# Altium footprint library B-NT_RLC.PcbLib: 48 footprints (part 2 of 3)
Each footprint in its own frame and in the unit in brackets; x right, y up, seen from the top. Pads: shape width x height; smd on the part's side, far side on the other; paste and mask are expansions set on the pad; w line width, h text height; cw(c..) or ccw(c..) is an arc to the next point about the centre after c.
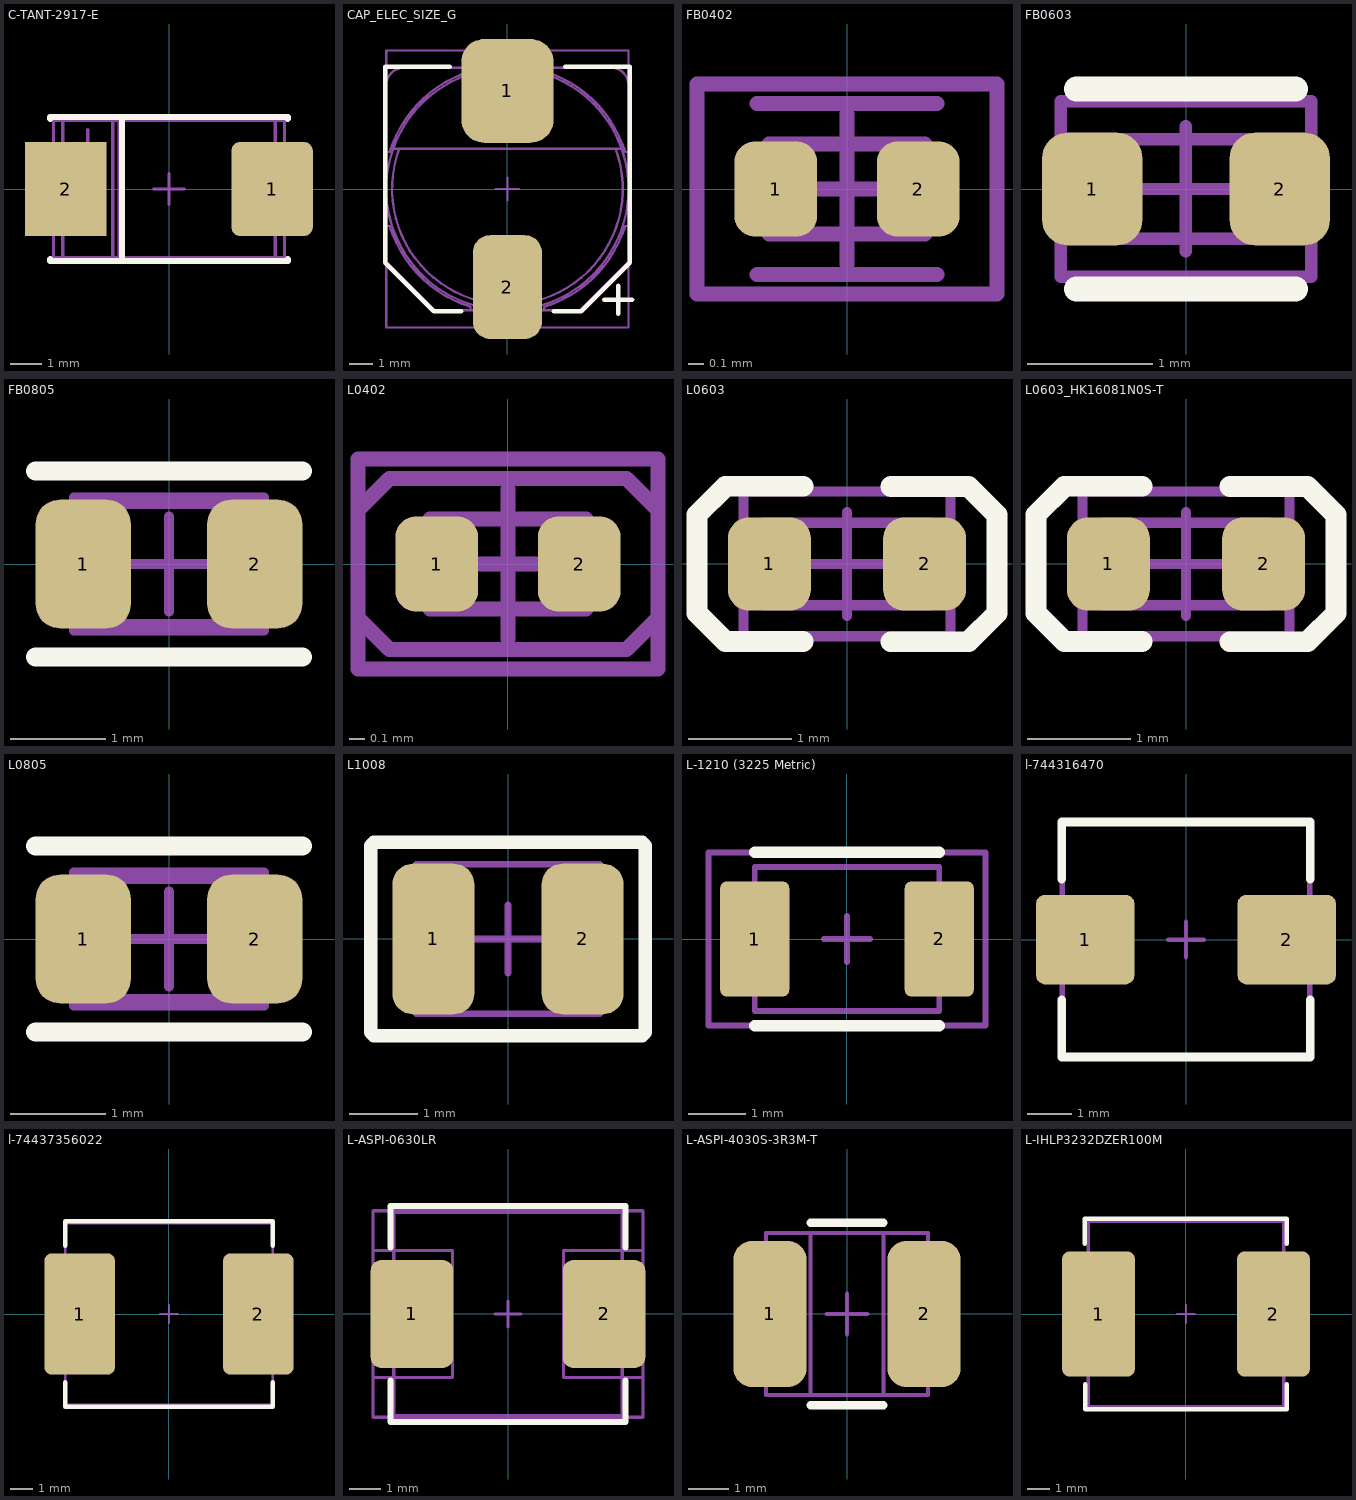
[diagram p1: the footprints below, top view; thin cyan lines are the x and y axes]

## C-TANT-2917-E [mm]
pads (2):
  rrect20% 2.6x3 smd: 1(3.3,0)
  rect 2.6x3 smd: 2(-3.3,0)
Top Overlay:
  lines w0.2: -3.8,-2.25 -3.8,-2.3 3.8,-2.3 3.8,-2.25 ; -3.8,2.25 -3.8,2.3 3.8,2.3 3.8,2.25 ; -1.5,-2.3 -1.5,2.3
M3 Top Assy:
  lines w0.1: -3.4,-1 -3.8,-1 -3.8,1.1 -3.4,1.1 ; -3.1,1.4 -2.6,1.4 ; -2.6,0.9 -2.6,1.4 ; -2.6,1.9 -2.6,1.4 ; -2.1,1.4 -2.6,1.4 ; -1.8,-2.2 -1.8,2.2 ; -1.6,-2.2 -1.6,2.2 ; 3.4,-1.1 3.8,-1.1 3.8,1 3.4,1 ; -3.4,-2.2 3.4,-2.2 3.4,2.2 -3.4,2.2 -3.4,-2.2
M8 Top Brd Anno:
  lines w0.1: -0.5,0 0.5,0 ; 0,-0.5 0,0.5 ; -3.7,-2.2 3.7,-2.2 3.7,2.2 -3.7,2.2 -3.7,-2.2
3D body "User Library-AVX_E_CASE.STEP": height 4.2, standoff 0, extent -3.7,-2.225 3.7,2.225

## CAP_ELEC_SIZE_G [mm] "Capacitor, polarized, aluminum can; 10.0x10.2mm DxH"
height 10.2
pads (2):
  rrect50% 4x4.5 smd: 1(0,4.25)
  rrect50% 3x4.5 smd: 2(0,-4.25)
Top Overlay:
  lines w0.2: -2.5,5.3 -5.3,5.3 -5.3,-3.2 -3.2,-5.3 -2,-5.3 ; 2,-5.3 3.2,-5.3 5.3,-3.2 5.3,5.3 2.5,5.3 ; 4.2,-4.8 5.4,-4.8 ; 4.8,-5.4 4.8,-4.2
M3 Top Assy:
  lines w0.1: -5.25,-1.601 -5.105,-1.601 ccw(c0,0) -1.601,-5.105 -1.601,-5.25 ; -5.25,1.601 -5.105,1.601 cw(c0,0) -1.601,5.105 -1.601,5.25 ; -4.948,1.75 cw(c0,0) 4.948,1.75 ; -4.684,1.75 ccw(c0,0) 4.684,1.75 ; -0.45,-5.25 -0.45,-6 0.45,-6 0.45,-5.25 ; -0.45,5.25 -0.45,6 0.45,6 0.45,5.25 ; 1.601,-5.25 1.601,-5.105 ccw(c0,0) 5.105,-1.601 5.25,-1.601 ; 1.601,5.25 1.601,5.105 cw(c0,0) 5.105,1.601 5.25,1.601 ; -5.25,-3.15 -5.25,4.5 cw(c-4.5,4.5) -4.5,5.25 4.5,5.25 cw(c4.5,4.5) 5.25,4.5 5.25,-3.15 3.15,-5.25 -3.15,-5.25 -5.25,-3.15 ; -4.95,1.75 ccw(c0,0) 4.95,1.75 -4.95,1.75
M8 Top Brd Anno:
  lines w0.1: -0.5,0 0.5,0 ; 0,-0.5 0,0.5 ; -5.25,-6 -5.25,6 5.25,6 5.25,-6 -5.25,-6
3D body "CAP Alum Elec Size G.STEP": height 10.5, standoff 0, extent -5.25,-6 5.25,6

## FB0402 [mm]
height 0.55
pads (2):
  rrect50% 0.55x0.635 smd: 1(-0.475,0) 2(0.475,0)
M3 Top Assy:
  lines w0.1: -0.3,-0.3 -0.3,0.3 ; 0.3,-0.3 0.3,0.3 ; -0.52,-0.3 0.52,-0.3 0.52,0.3 -0.52,0.3 -0.52,-0.3
M6 Top Assy Anno:
  lines w0.1: -0.6,0.57 0.6,0.57 ; -0.6,-0.57 0.6,-0.57
M8 Top Brd Anno:
  lines w0.1: -0.5,0 0.5,0 ; 0,-0.5 0,0.5 ; -1,-0.7 -1,0.7 1,0.7 1,-0.7 -1,-0.7
3D body "User Library-FB_1005.STEP": height 0.5, standoff 0, extent -0.5,-0.25 0.5,0.25

## FB0603 [mm] "Body 1,6x0,8x0,8"
height 0.8
pads (2):
  rrect50% 0.8x0.9 smd paste-0.05: 1(-0.75,0) 2(0.75,0)
Top Overlay:
  lines w0.2: -0.875,-0.8 0,-0.8 0.875,-0.8 ; -0.875,0.8 0,0.8 0.875,0.8
M3 Top Assy:
  lines w0.1: -0.5,-0.4 -0.5,0.4 ; 0.5,-0.4 0.5,0.4 ; -0.8,-0.4 -0.8,0.4 0.8,0.4 0.8,-0.4 -0.8,-0.4
M8 Top Brd Anno:
  lines w0.1: -0.5,0 0.5,0 ; 0,-0.5 0,0.5 ; -1,-0.7 1,-0.7 1,0.7 -1,0.7 -1,-0.7
3D body "FB_0603.stp": height 0.8, standoff 0, extent -0.8,-0.4 0.8,0.4

## FB0805 [mm]
pads (2):
  rrect50% 1x1.35 smd: 1(-0.9,0) 2(0.9,0)
Top Overlay:
  lines w0.2: -1.4,-0.975 1.4,-0.975 ; -1.4,0.975 1.4,0.975
M3 Top Assy:
  lines w0.1: -0.6,-0.625 -0.6,0.625 ; 0.6,-0.625 0.6,0.625 ; -1,-0.625 1,-0.625 1,0.625 -1,0.625 -1,-0.625
M8 Top Brd Anno:
  lines w0.1: -0.5,0 0.5,0 ; 0,-0.5 0,0.5 ; -1,-0.7 -1,0.7 1,0.7 1,-0.7 -1,-0.7
3D body "User Library-ind_0805.step": height 0.95, standoff 0, extent -1,-0.6 1,0.6

## L0402 [mm]
pads (2):
  rrect50% 0.55x0.635 smd: 1(-0.475,0) 2(0.475,0)
M3 Top Assy:
  lines w0.1: -0.3,-0.3 -0.3,0.3 ; 0.3,-0.3 0.3,0.3 ; -0.52,-0.3 -0.52,0.3 0.52,0.3 0.52,-0.3 -0.52,-0.3
M6 Top Assy Anno:
  lines w0.1: -1,-0.36 -1,0.36 -0.79,0.57 0.79,0.57 1,0.36 1,-0.36 0.79,-0.57 -0.79,-0.57 -1,-0.36
M8 Top Brd Anno:
  lines w0.1: -0.5,0 0.5,0 ; 0,-0.5 0,0.5 ; -1,-0.7 -1,0.7 1,0.7 1,-0.7 -1,-0.7
3D body "68864.stp": height 0.46, standoff -0.04, extent -0.5,-0.275 0.5,0.275

## L0603 [mm] "Body 1,6x0,8x0,6"
height 0.6
pads (2):
  rrect50% 0.8x0.9 smd: 1(-0.75,0) 2(0.75,0)
Top Overlay:
  lines w0.2: -0.425,-0.75 -1.175,-0.75 -1.45,-0.475 -1.45,0.475 -1.175,0.75 -0.425,0.75 ; 0.425,-0.75 1.175,-0.75 1.45,-0.475 1.45,0.475 1.175,0.75 0.425,0.75
M3 Top Assy:
  lines w0.1: -0.5,-0.4 -0.5,0.4 ; 0.5,-0.4 0.5,0.4 ; -0.8,-0.4 -0.8,0.4 0.8,0.4 0.8,-0.4 -0.8,-0.4
M8 Top Brd Anno:
  lines w0.1: -0.5,0 0.5,0 ; 0,-0.5 0,0.5 ; -1,-0.7 -1,0.7 1,0.7 1,-0.7 -1,-0.7
3D body: height 0.6, standoff 0, extent -0.8,-0.4 0.8,0.4

## L0603_HK16081N0S-T [mm] "Body 1,6x0,8x0,8"
height 0.8
pads (2):
  rrect50% 0.8x0.9 smd: 1(-0.75,0) 2(0.75,0)
Top Overlay:
  lines w0.2: -0.425,-0.75 -1.175,-0.75 -1.45,-0.475 -1.45,0.475 -1.175,0.75 -0.425,0.75 ; 0.425,-0.75 1.175,-0.75 1.45,-0.475 1.45,0.475 1.175,0.75 0.425,0.75
M3 Top Assy:
  lines w0.1: -0.5,-0.4 -0.5,0.4 ; 0.5,-0.4 0.5,0.4 ; -0.8,-0.4 -0.8,0.4 0.8,0.4 0.8,-0.4 -0.8,-0.4
M8 Top Brd Anno:
  lines w0.1: -0.5,0 0.5,0 ; 0,-0.5 0,0.5 ; -1,-0.7 -1,0.7 1,0.7 1,-0.7 -1,-0.7
3D body: height 0.8, standoff 0, extent -0.8,-0.4 0.8,0.4

## L0805 [mm]
height 1.25
pads (2):
  rrect50% 1x1.35 smd: 1(-0.9,0) 2(0.9,0)
Top Overlay:
  lines w0.2: -1.4,-0.975 1.4,-0.975 ; -1.4,0.975 1.4,0.975
M3 Top Assy:
  lines w0.1: -0.6,-0.625 -0.6,0.625 ; 0.6,-0.625 0.6,0.625 ; -1,-0.625 1,-0.625 1,0.625 -1,0.625 -1,-0.625
M8 Top Brd Anno:
  lines w0.1: -0.5,0 0.5,0 ; 0,-0.5 0,0.5 ; -1,-0.7 -1,0.7 1,0.7 1,-0.7 -1,-0.7
3D body "CB2012T100KR.STEP": height 1.25, standoff 0, extent -1,-0.625 1,0.625

## L1008 [mm] "Chip Inductor, 2-Leads, Body 2,50x2,00mm, IPC Medium Density"
height 0.7
pads (2):
  rrect50% 1.21x2.22 smd: 1(-1.1,0) 2(1.1,0)
Top Overlay:
  lines w0.2: -2.025,-1.375 -1.975,-1.425 1.975,-1.425 2.025,-1.375 2.025,1.375 1.975,1.425 -1.975,1.425 -2.025,1.375 -2.025,-1.375
M3 Top Assy:
  lines w0.1: -1.35,-1.1 1.35,-1.1 1.35,1.1 -1.35,1.1 -1.35,-1.1
M8 Top Brd Anno:
  lines w0.05: -2,-1.4 2,-1.4 2,1.4 -2,1.4 -2,-1.4
  lines w0.1: -0.5,0 0.5,0 ; 0,-0.5 0,0.5
3D body "INDC2520X07N.step": height 0.7, standoff 0, extent -1.35,-1.1 1.35,1.1

## L-1210 (3225 Metric) [mm] "0.126\" L x 0.098\" W (3.20mm x 2.50mm)_M"
height 2.4
pads (2):
  rrect20% 1.2x2 smd: 1(-1.6,0) 2(1.6,0)
Top Overlay:
  lines w0.2: -1.6,-1.5 1.6,-1.5 ; -1.6,1.5 1.6,1.5
M3 Top Assy:
  lines w0.1: -1.6,-1.25 -1.6,1.25 1.6,1.25 1.6,-1.25 -1.6,-1.25
M8 Top Brd Anno:
  lines w0.1: -0.4,0 0.4,0 ; 0,-0.4 0,0.4 ; -2.4,-1.5 -2.4,1.5 2.4,1.5 2.4,-1.5 -2.4,-1.5
3D body "User Library-SIMID 1210-H.STEP": height 2.33, standoff -0.07, extent -1.6,-1.25 1.6,1.25
3D body "User Library-SIMID 1210-H.STEP": height 2.35, standoff -0.05, extent -1.6,-1.25 1.6,1.25

## l-744316470 [mm]
pads (2):
  rrect20% 2.2x2 smd: 1(-2.25,0) 2(2.25,0)
Top Overlay:
  lines w0.2: -2.775,-1.35 -2.775,-2.625 2.775,-2.625 2.775,-1.35 ; -2.775,1.35 -2.775,2.625 2.75,2.625 2.775,2.6 ; 2.775,1.35 2.775,2.625
M3 Top Assy:
  lines w0.1: -2.775,-2.625 2.775,-2.625 2.775,2.65 -2.75,2.65 -2.775,2.625 -2.775,-2.625
M8 Top Brd Anno:
  lines w0.1: -0.4,0 0.4,0 ; 0,-0.4 0,0.4 ; -2.75,-2.6 -2.75,-2.575 -2.75,2.6 2.75,2.6 2.75,2.575 2.75,-2.6 -2.75,-2.6
3D body "STEP-WE-HCI-5040-rev1.stp": height 3.95, standoff 0, extent -2.79,-2.65 2.79,2.65

## l-74437356022 [mm]
pads (2):
  rrect20% 3.2x5.5 smd: 1(-4.05,0) 2(4.05,0)
Top Overlay:
  lines w0.2: -4.7,-3.1 -4.7,-4.2 4.7,-4.2 4.7,-3.1 ; -4.7,3.1 -4.7,4.2 4.7,4.2 4.7,3.1
M3 Top Assy:
  lines w0.1: -4.7,-4.1 4.7,-4.1 ; -4.7,-4.1 -4.7,4.1 4.7,4.1 4.7,-4.1 ; -4.7,-4.1 4.7,-4.1
M8 Top Brd Anno:
  lines w0.1: -0.4,0 0.4,0 ; 0,-0.4 0,0.4 ; -4.7,-4.175 -4.7,-4.125 -4.7,4.175 4.7,4.175 4.7,4.125 4.7,-4.175 -4.7,-4.175
3D body "STEP-WE-LHMI-8030-rev1.stp": height 3, standoff 0, extent -4.725,-4.1 4.725,4.1

## L-ASPI-0630LR [mm]
pads (2):
  rrect25% 2.6x3.4 smd: 1(-3.025,0) 2(3.025,0)
Top Overlay:
  lines w0.2: -3.7,-2.1 -3.7,-3.4 3.7,-3.4 3.7,-2.1 ; -3.7,2.1 -3.7,3.4 3.7,3.4 3.7,2.1
M3 Top Assy:
  lines w0.1: -4.25,-2 -1.75,-2 -1.75,2 -4.25,2 ; 4.25,-2 1.75,-2 1.75,2 4.25,2 ; -4.25,-3.25 4.25,-3.25 4.25,3.25 -4.25,3.25 -4.25,-3.25
M8 Top Brd Anno:
  lines w0.1: -0.4,0 0.4,0 ; 0,-0.4 0,0.4 ; -3.6,-3.2 -3.6,3.2 3.6,3.2 3.6,-3.2 -3.6,-3.2
3D body "ASPI-0630LR.STEP": height 3, standoff 0, extent -3.6,-3.325 3.6,3.325

## L-ASPI-4030S-3R3M-T [mm]
height 3
pads (2):
  rrect50% 1.8x3.6 smd: 1(-1.9,0) 2(1.9,0)
Top Overlay:
  lines w0.2: -0.9,-2.25 0.9,-2.25 ; -0.9,2.25 0.9,2.25
M3 Top Assy:
  lines w0.1: -0.9,-2 -0.9,2 ; 0.9,-2 0.9,2 ; -2,-2 -2,2 2,2 2,-2 -2,-2
M8 Top Brd Anno:
  lines w0.1: -0.5,0 0.5,0 ; 0,-0.5 0,0.5 ; -2,-2 -2,2 2,2 2,-2 -2,-2
3D body "L-ASPI-4030S-3RM3-T.STEP": height 3.05, standoff 0.05, extent -2,-2 2,2

## L-IHLP3232DZER100M [mm]
pads (2):
  rrect20% 3.2x5.5 smd: 1(-3.85,0) 2(3.85,0)
Top Overlay:
  lines w0.2: -4.45,3.1 -4.45,4.2 4.425,4.2 4.425,3.1 ; -4.425,-3.1 -4.425,-4.2 4.425,-4.2 4.425,-3.1
M3 Top Assy:
  lines w0.1: -4.325,-4.1 4.325,-4.1 ; -4.325,-4.1 -4.325,4.1 4.325,4.1 4.325,-4.1 ; -4.325,-4.1 4.325,-4.1
M8 Top Brd Anno:
  lines w0.1: -0.4,0 0.4,0 ; 0,-0.4 0,0.4 ; -4.275,-4.05 -4.275,4.05 4.275,4.05 4.275,-4.05 4.25,-4.05 -4.275,-4.05
3D body "IHLP3232CZ.STEP": height 2.79, standoff -0.1, extent -4.3,-4.1 4.3,4.094